# EAGLE library part HOLES_8X4 (library harrison)
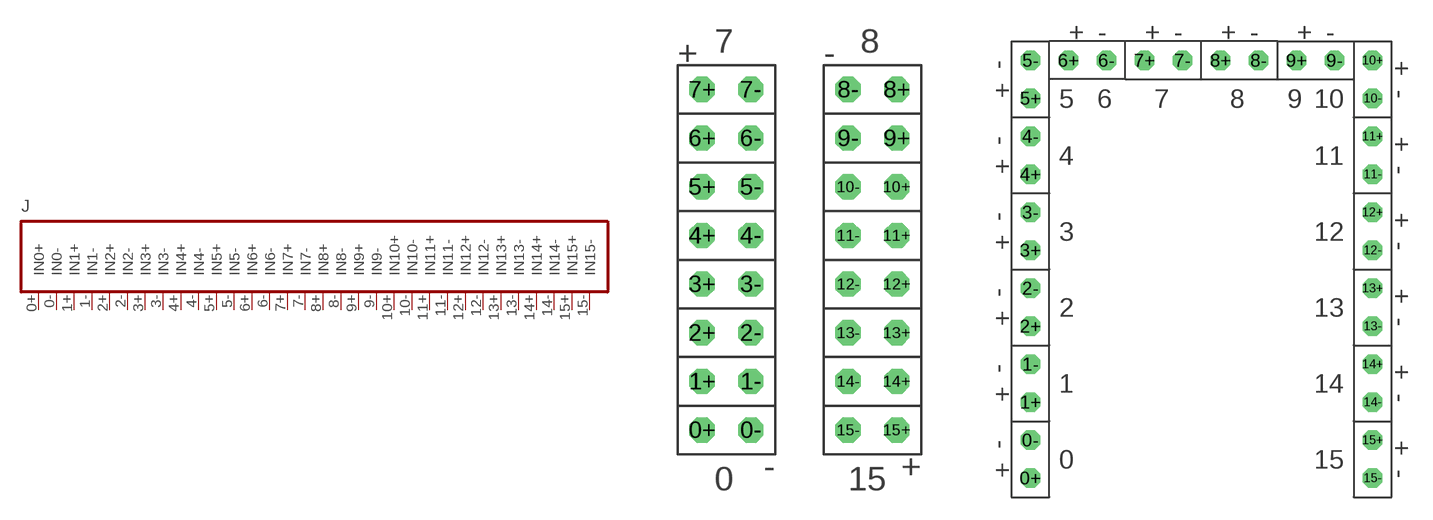
[diagram p57: symbol with the pads of HOLES_8X4; footprints HOLES_8X4, HOLES_32]

Designator prefix J

## HOLES_8X4  [HOLES_8X4]
0+  IN0+  pas
0-  IN0-  pas
1+  IN1+  pas
1-  IN1-  pas
2+  IN2+  pas
2-  IN2-  pas
3+  IN3+  pas
3-  IN3-  pas
4+  IN4+  pas
4-  IN4-  pas
5+  IN5+  pas
5-  IN5-  pas
6+  IN6+  pas
6-  IN6-  pas
7+  IN7+  pas
7-  IN7-  pas
8+  IN8+  pas
8-  IN8-  pas
9+  IN9+  pas
9-  IN9-  pas
10+  IN10+  pas
10-  IN10-  pas
11+  IN11+  pas
11-  IN11-  pas
12+  IN12+  pas
12-  IN12-  pas
13+  IN13+  pas
13-  IN13-  pas
14+  IN14+  pas
14-  IN14-  pas
15+  IN15+  pas
15-  IN15-  pas

## HOLES_8X4_HORSESHOE  [HOLES_32]
Pads as for HOLES_8X4

## Footprint HOLES_8X4 (pad centres in mm)
drill 0.813 octagon: 0+ -5.08,-8.89; 0- -2.54,-8.89; 1+ -5.08,-6.35; 1- -2.54,-6.35; 2+ -5.08,-3.81; 2- -2.54,-3.81; 3+ -5.08,-1.27; 3- -2.54,-1.27; 4+ -5.08,1.27; 4- -2.54,1.27; 5+ -5.08,3.81; 5- -2.54,3.81; 6+ -5.08,6.35; 6- -2.54,6.35; 7+ -5.08,8.89; 7- -2.54,8.89; 8+ 5.08,8.89; 8- 2.54,8.89; 9+ 5.08,6.35; 9- 2.54,6.35; 10+ 5.08,3.81; 10- 2.54,3.81; 11+ 5.08,1.27; 11- 2.54,1.27; 12+ 5.08,-1.27; 12- 2.54,-1.27; 13+ 5.08,-3.81; 13- 2.54,-3.81; 14+ 5.08,-6.35; 14- 2.54,-6.35; 15+ 5.08,-8.89; 15- 2.54,-8.89

## Footprint HOLES_32 (pad centres in mm)
drill 0.813 octagon: 0+ -11.43,-11.43; 0- -11.43,-8.89; 1+ -11.43,-6.35; 1- -11.43,-3.81; 2+ -11.43,-1.27; 2- -11.43,1.27; 3+ -11.43,3.81; 3- -11.43,6.35; 4+ -11.43,8.89; 4- -11.43,11.43; 5+ -11.43,13.97; 5- -11.43,16.51; 6+ -8.89,16.51; 6- -6.35,16.51; 7+ -3.81,16.51; 7- -1.27,16.51; 8+ 1.27,16.51; 8- 3.81,16.51; 9+ 6.35,16.51; 9- 8.89,16.51; 10+ 11.43,16.51; 10- 11.43,13.97; 11+ 11.43,11.43; 11- 11.43,8.89; 12+ 11.43,6.35; 12- 11.43,3.81; 13+ 11.43,1.27; 13- 11.43,-1.27; 14+ 11.43,-3.81; 14- 11.43,-6.35; 15+ 11.43,-8.89; 15- 11.43,-11.43